# Altium footprint library CONN_RF.PcbLib: 3 footprints
Each footprint in its own frame and in the unit in brackets; x right, y up, seen from the top. Pads: shape width x height; smd on the part's side, far side on the other; paste and mask are expansions set on the pad; w line width, h text height; cw(c..) or ccw(c..) is an arc to the next point about the centre after c.
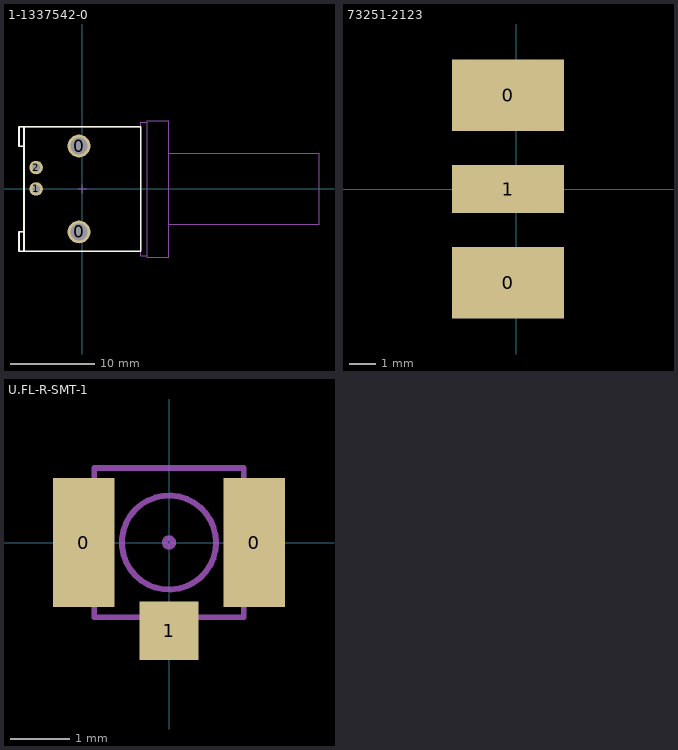
[diagram p0: the footprints below, top view; thin cyan lines are the x and y axes]

## 1-1337542-0 [mm] "50 Ohms  BNC Elbow PCB Socket With Mounting Posts"
height 13.16
pads (4):
  round 2.7 hole 2: 0(-0.4,-5.08) 0(-0.4,5.08)
  round 1.6 hole 0.9: 1(-5.48,0) 2(-5.48,2.54)
Top Overlay:
  lines w0.2: -6.9,-7.35 -6.9,7.35 ; -6.9,-5.061 -7.5,-5.061 -7.5,-7.35 6.9,-7.35 6.9,7.35 -7.5,7.35 -7.5,5.061 -6.9,5.05
Mechanical 8:
  lines w0.1: -5.98,0 -5.48,0 ; -5.98,2.54 -5.48,2.54 ; -5.48,-0.5 -5.48,0 ; -5.48,0.5 -5.48,0 ; -5.48,2.04 -5.48,2.54 ; -5.48,3.04 -5.48,2.54 ; -4.98,0 -5.48,0 ; -4.98,2.54 -5.48,2.54 ; -0.9,-5.08 -0.4,-5.08 ; -0.9,5.08 -0.4,5.08 ; -0.5,0 0,0 ; -0.4,-5.58 -0.4,-5.08 ; -0.4,-4.58 -0.4,-5.08 ; -0.4,4.58 -0.4,5.08 ; -0.4,5.58 -0.4,5.08 ; 0,-0.5 0,0 ; 0,0.5 0,0 ; 0.1,-5.08 -0.4,-5.08 ; 0.1,5.08 -0.4,5.08 ; 0.5,0 0,0
Mechanical 14:
  lines w0.1: -6.9,-7.35 -6.9,7.35 ; -6.9,-5.061 -7.5,-5.061 -7.5,-7.35 6.9,-7.35 ; -6.9,5.05 -7.5,5.061 -7.5,7.35 6.9,7.35 6.9,-7.35 ; 6.893,7.346 6.893,7.896 7.693,7.896 ; 10.193,-8.1 10.193,8.096 7.693,8.096 7.693,7.896 ; 10.2,-8.1 7.7,-8.1 7.7,-7.9 ; 10.2,-4.2 28,-4.2 28,4.2 10.2,4.2 ; 6.9,-7.35 6.9,-7.9 7.7,-7.9 ; 7.693,7.896 7.7,7.896 7.7,-7.9
  text ".Designator" at 2.2,-1.9 h3
3D body "TYCO_1-1634416-0.stp": height 13.85, standoff -0.15, extent 7.67,-8.083 10.17,8.083
3D body "TYCO_1-1634817-0.stp": height 14.79, standoff -1.01, extent 6.9,-7.916 7.67,7.884
3D body "TYCO_1-1337542-0.stp": height 13.16, standoff -4.3, extent -7.5,-7.35 28,7.35

## 73251-2123 [mm]
pads (3):
  rect 4.19x2.66 smd: 0(-0.3,-3.5) 0(-0.3,3.5)
  rect 4.19x1.78 smd: 1(-0.3,0)
Mechanical 14:
  text ".Designator" at -0.4,1.6 h0.6
3D body "73251-2123.stp": height 3.88, standoff -2.47, extent -1.7,-3.175 14.556,3.175

## U.FL-R-SMT-1 [mm]
pads (3):
  rect 1.05x2.2 smd: 0(-1.45,0) 0(1.45,0)
  rect 1x1 smd: 1(0,-1.5)
Mechanical 14:
  circle w0.1: c0,0 r0.8
  circle w0.1: c0,0 r0.071
  lines w0.1: -1.27,-0.9 -1.5,-0.9 -1.5,0.95 -1.27,0.95 ; -0.3,-1.27 -0.3,-1.55 0.3,-1.55 0.3,-1.27 ; 1.27,-0.9 1.5,-0.9 1.5,0.95 1.27,0.95 ; -1.27,-1.27 1.27,-1.27 1.27,1.27 -1.27,1.27 -1.27,-1.27
  text ".Designator" at -1.2,1.6 h0.6
3D body "U_FL-R-SMT1.step": height 1.25, standoff -0.01, extent -1.5,-1.55 1.5,1.55